# Altium integrated library Microchip Power Management Line Regulator.IntLib: 1174 symbols (part 12 of 31)
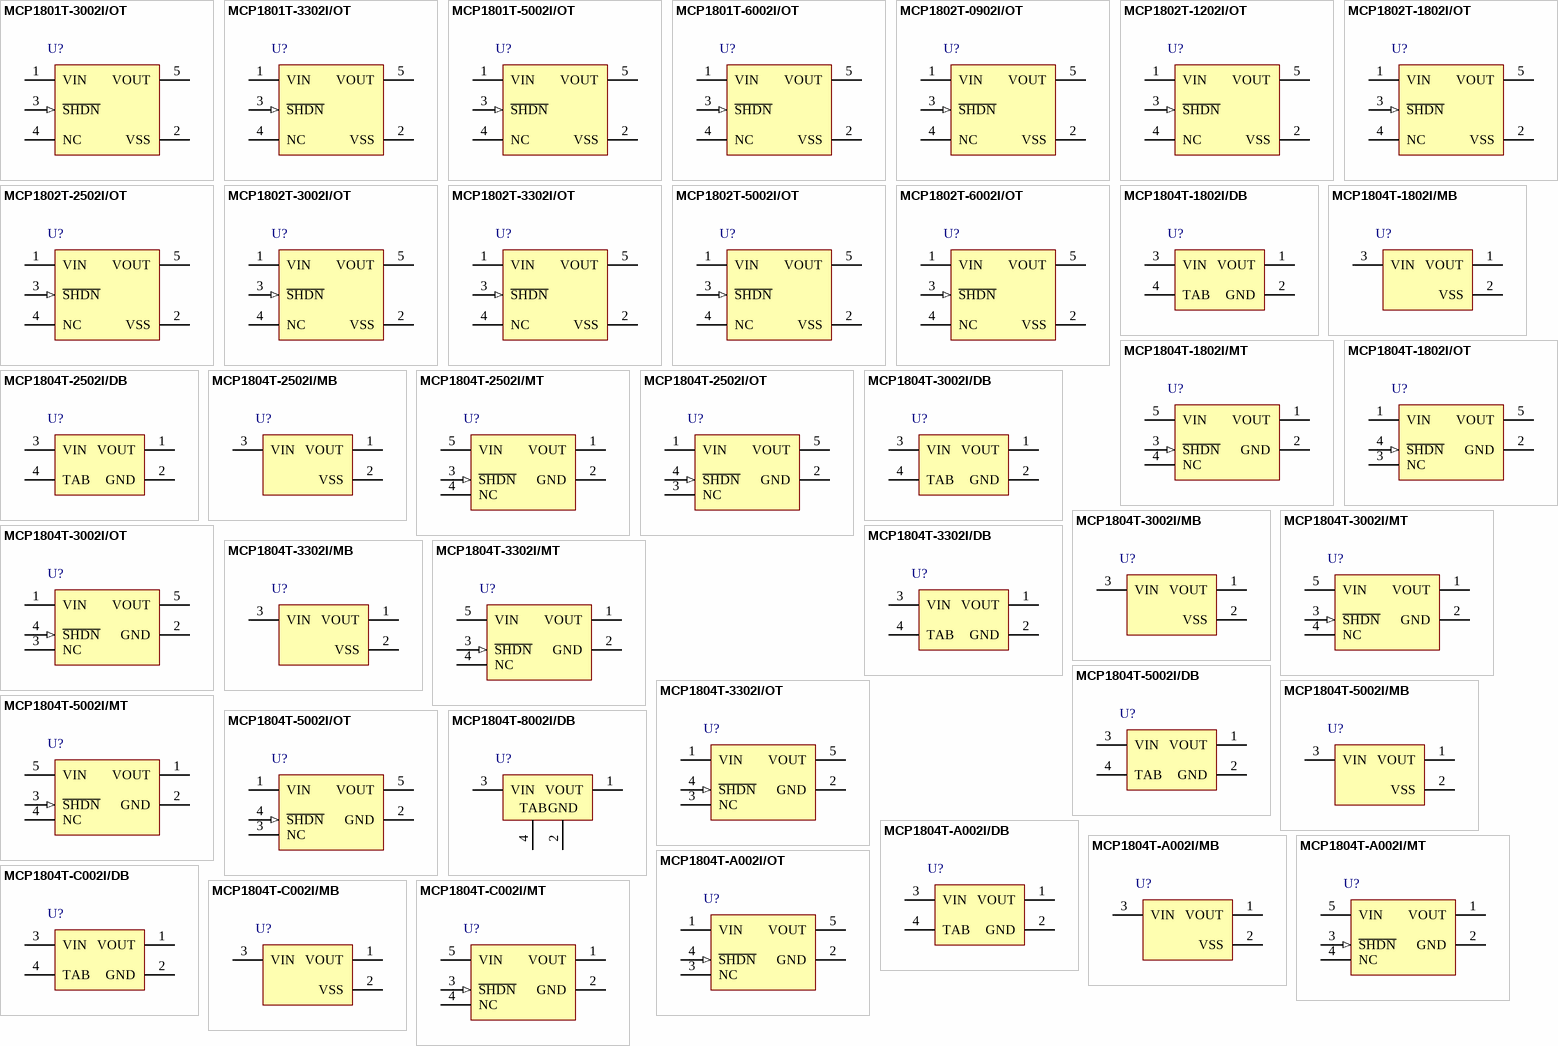
[diagram p41: symbols MCP1801T-3002I/OT to MCP1804T-C002I/MT]

## MCP1804T-5002I/DB
designator U?
150 mA, 28V LDO Regulator With Shutdown, 3-Pin SOT-223, Industrial Temperature, Tape and Reel; Manufacturer: Microchip; PartNumber: MCP1804T-5002I/DB; DatasheetVersion: revB, Nov-2009; PackageVersion: revBB, Aug-2009; PackageReference: SOT-223-DB3; PackageDescription: 3-Lead Plastic Small Outline Transistor (DB) [SOT-223]; Supplier 1: Digi-Key; Supplier Part Number 1: MCP1804T-5002I/DBTR-ND; Supplier 2: Digi-Key; Supplier Part Number 2: MCP1804T-5002I/DBCT-ND; Supplier 3: Digi-Key; Supplier Part Number 3: MCP1804T-5002I/DBDKR-ND; Supplier 4: Newark; Supplier Part Number 4: 52R9939; Supplier 5: Mouser; Supplier Part Number 5: 579-MCP1804T-5002IDB; Mounting Technology: Surface Mount; ComponentLink1Description: Manufacturer URL; ComponentLink1URL: http://www.microchip.com/; ComponentLink2Description: Datasheet; ComponentLink2URL: http://ww1.microchip.com/downloads/en/DeviceDoc/22200b.pdf; ComponentLink3Description: Package Specification; ComponentLink3URL: http://www.microchip.com/stellent/groups/techpub_sg/documents/packagingspec/en012702.pdf
footprint SOT-223-DB3_N (SOT223, 4-Leads, Body 6.5x3.5mm, Pitch 2.3mm, Lead Span 7mm, IPC Medium Density)
footprint SOT-223-DB3_L (SOT223, 4-Leads, Body 6.5x3.5mm, Pitch 2.3mm, Lead Span 7mm, IPC High Density)
footprint SOT-223-DB3_M (SOT223, 4-Leads, Body 6.5x3.5mm, Pitch 2.3mm, Lead Span 7mm, IPC Low Density)
pins: 1 VOUT (power), 2 GND (power), 3 VIN (power), 4 TAB (power)

## MCP1804T-5002I/MB
designator U?
150 mA, 28V LDO Regulator With Shutdown, 3-Pin SOT-89, Industrial Temperature, Tape and Reel; Manufacturer: Microchip; PartNumber: MCP1804T-5002I/MB; DatasheetVersion: revB, Nov-2009; PackageVersion: revBB, Aug-2009; PackageReference: SOT-89-MB3; PackageDescription: 3-Lead Plastic Small Outline Transistor Header (MB) [SOT-89]; Supplier 1: Digi-Key; Supplier Part Number 1: MCP1804T-5002I/MBTR-ND; Supplier 2: Digi-Key; Supplier Part Number 2: MCP1804T-5002I/MBCT-ND; Supplier 3: Digi-Key; Supplier Part Number 3: MCP1804T-5002I/MBDKR-ND; Supplier 4: Newark; Supplier Part Number 4: 52R9940; Supplier 5: Mouser; Supplier Part Number 5: 579-MCP1804T-5002IMB; Mounting Technology: Surface Mount; Code_IPC: SOT89; ComponentLink1Description: Manufacturer URL; ComponentLink1URL: http://www.microchip.com/; ComponentLink2Description: Datasheet; ComponentLink2URL: http://ww1.microchip.com/downloads/en/DeviceDoc/22200b.pdf; ComponentLink3Description: Package Specification; ComponentLink3URL: http://www.microchip.com/stellent/groups/techpub_sg/documents/packagingspec/en012702.pdf
footprint SOT-89-MB3_N (SOT89, 3-Leads, Body 4.5x2.4 mm, Pitch 1.5mm, Lead Span 4.1mm, IPC Medium Density)
footprint SOT-89-MB3_L (SOT89, 3-Leads, Body 4.5x2.4 mm, Pitch 1.5mm, Lead Span 4.1mm, IPC High Density)
footprint SOT-89-MB3_M (SOT89, 3-Leads, Body 4.5x2.4 mm, Pitch 1.5mm, Lead Span 4.1mm, IPC Low Density)
pins: 1 VOUT (power), 2 VSS (power), 3 VIN (power)

## MCP1804T-5002I/MT
designator U?
150 mA, 28V LDO Regulator With Shutdown, 5-Pin SOT-89, Industrial Temperature, Tape and Reel; Manufacturer: Microchip; PartNumber: MCP1804T-5002I/MT; DatasheetVersion: revB, Nov-2009; PackageVersion: revBB, Aug-2009; PackageReference: SOT-89-MT5; PackageDescription: 5-Lead Plastic Small Outline Transistor Header (MT) [SOT-89]; Supplier 1: Digi-Key; Supplier Part Number 1: MCP1804T-5002I/MTTR-ND; Supplier 2: Digi-Key; Supplier Part Number 2: MCP1804T-5002I/MTCT-ND; Supplier 3: Digi-Key; Supplier Part Number 3: MCP1804T-5002I/MTDKR-ND; Supplier 4: Newark; Supplier Part Number 4: 52R9941; Supplier 5: Mouser; Supplier Part Number 5: 579-MCP1804T-5002IMT; Mounting Technology: Surface Mount; ComponentLink1Description: Manufacturer URL; ComponentLink1URL: http://www.microchip.com/; ComponentLink2Description: Datasheet; ComponentLink2URL: http://ww1.microchip.com/downloads/en/DeviceDoc/22200b.pdf; ComponentLink3Description: Package Specification; ComponentLink3URL: http://www.microchip.com/stellent/groups/techpub_sg/documents/packagingspec/en012702.pdf
footprint SOT-89-MT5_N (SOT89, 5-Leads, Body 4.5x2.4 mm, Pitch 1.5mm, Lead Span 4.2mm, IPC Medium Density)
footprint SOT-89-MT5_L (SOT89, 5-Leads, Body 4.5x2.4 mm, Pitch 1.5mm, Lead Span 4.2mm, IPC High Density)
footprint SOT-89-MT5_M (SOT89, 5-Leads, Body 4.5x2.4 mm, Pitch 1.5mm, Lead Span 4.2mm, IPC Low Density)
pins: 1 VOUT (power), 2 GND (power), 3 ~{SHDN} (in), 4 NC, 5 VIN (power)

## MCP1804T-5002I/OT
designator U?
150 mA, 28V LDO Regulator With Shutdown, 5-Pin SOT-23, Industrial Temperature, Tape and Reel; Manufacturer: Microchip; PartNumber: MCP1804T-5002I/OT; DatasheetVersion: revB, Nov-2009; PackageVersion: revBB, Aug-2009; PackageReference: SOT-23-OT5; PackageDescription: 5-Lead Plastic Small Outline Transistor (OT) [SOT-23]; Supplier 1: Digi-Key; Supplier Part Number 1: MCP1804T-5002I/OTTR-ND; Supplier 2: Digi-Key; Supplier Part Number 2: MCP1804T-5002I/OTCT-ND; Supplier 3: Digi-Key; Supplier Part Number 3: MCP1804T-5002I/OTDKR-ND; Supplier 4: Farnell; Supplier Part Number 4: 1825007; Supplier 5: Newark; Supplier Part Number 5: 52R9942; Supplier 6: Mouser; Supplier Part Number 6: 579-MCP1804T-5002IOT; Mounting Technology: Surface Mount; Code_IPC: SOT23-5; ComponentLink1Description: Manufacturer URL; ComponentLink1URL: http://www.microchip.com/; ComponentLink2Description: Datasheet; ComponentLink2URL: http://ww1.microchip.com/downloads/en/DeviceDoc/22200b.pdf; ComponentLink3Description: Package Specification; ComponentLink3URL: http://www.microchip.com/stellent/groups/techpub_sg/documents/packagingspec/en012702.pdf
footprint SOT-23-OT5_N (SOT23, 5-Leads, Body 2.9x1.6mm, Pitch 0.95mm, Lead Span 2.7mm, IPC Medium Density)
footprint SOT-23-OT5_L (SOT23, 5-Leads, Body 2.9x1.6mm, Pitch 0.95mm, Lead Span 2.7mm, IPC High Density)
footprint SOT-23-OT5_M (SOT23, 5-Leads, Body 2.9x1.6mm, Pitch 0.95mm, Lead Span 2.7mm, IPC Low Density)
pins: 1 VIN (power), 2 GND (power), 3 NC, 4 ~{SHDN} (in), 5 VOUT (power)

## MCP1804T-8002I/DB
designator U?
150 mA, 28 V LDO Regulator with Shutdown, -40 to 85 degC, 3-pin SOT-223 (DB3), Tape and Reel; Manufacturer: Microchip; PartNumber: MCP1804T-8002I/DB; DatasheetVersion: Rev. C; PackageVersion: C04-032B; PackageReference: SOT-223-DB3; PackageDescription: 3-Lead Plastic Small Outline Transistor, 6.5 x 3.5 mm Body, 2.3 mm Pitch; Mounting Technology: Surface Mount; ComponentLink1Description: Manufacturer URL; ComponentLink1URL: http://www.microchip.com; ComponentLink2Description: Datasheet; ComponentLink2URL: http://ww1.microchip.com/downloads/en/DeviceDoc/22200C.pdf; ComponentLink3Description: Package Specification; ComponentLink3URL: http://www.microchip.com/stellent/groups/techpub_sg/documents/packagingspec/en012702.pdf; ComponentLink4Description: Product URL; ComponentLink4URL: http://www.microchip.com/MCP1804
footprint MCHP-SOT-223-DB3_N (SOT223, 3-Leads, Body 6.5x3.5mm, Pitch 2.3mm, IPC Medium Density)
footprint MCHP-SOT-223-DB3_L (SOT223, 3-Leads, Body 6.5x3.5mm, Pitch 2.3mm, IPC High Density)
footprint MCHP-SOT-223-DB3_M (SOT223, 3-Leads, Body 6.5x3.5mm, Pitch 2.3mm, IPC Low Density)
pins: 1 VOUT (power) "Regulated Voltage Output", 2 GND (power) "Ground Terminal", 3 VIN (power) "Unregulated Supply Voltage", 4 TAB "No connection"

## MCP1804T-A002I/DB
designator U?
150 mA, 28V LDO Regulator With Shutdown, 3-Pin SOT-223, Industrial Temperature, Tape and Reel; Manufacturer: Microchip; PartNumber: MCP1804T-A002I/DB; DatasheetVersion: revB, Nov-2009; PackageVersion: revBB, Aug-2009; PackageReference: SOT-223-DB3; PackageDescription: 3-Lead Plastic Small Outline Transistor (DB) [SOT-223]; Supplier 1: Digi-Key; Supplier Part Number 1: MCP1804T-A002I/DBTR-ND; Supplier 2: Digi-Key; Supplier Part Number 2: MCP1804T-A002I/DBCT-ND; Supplier 3: Digi-Key; Supplier Part Number 3: MCP1804T-A002I/DBDKR-ND; Supplier 4: Newark; Supplier Part Number 4: 52R9915; Supplier 5: Mouser; Supplier Part Number 5: 579-MCP1804T-A002IDB; Mounting Technology: Surface Mount; ComponentLink1Description: Manufacturer URL; ComponentLink1URL: http://www.microchip.com/; ComponentLink2Description: Datasheet; ComponentLink2URL: http://ww1.microchip.com/downloads/en/DeviceDoc/22200b.pdf; ComponentLink3Description: Package Specification; ComponentLink3URL: http://www.microchip.com/stellent/groups/techpub_sg/documents/packagingspec/en012702.pdf
footprint SOT-223-DB3_N (SOT223, 4-Leads, Body 6.5x3.5mm, Pitch 2.3mm, Lead Span 7mm, IPC Medium Density)
footprint SOT-223-DB3_L (SOT223, 4-Leads, Body 6.5x3.5mm, Pitch 2.3mm, Lead Span 7mm, IPC High Density)
footprint SOT-223-DB3_M (SOT223, 4-Leads, Body 6.5x3.5mm, Pitch 2.3mm, Lead Span 7mm, IPC Low Density)
pins: 1 VOUT (power), 2 GND (power), 3 VIN (power), 4 TAB (power)

## MCP1804T-A002I/MB
designator U?
150 mA, 28V LDO Regulator With Shutdown, 3-Pin SOT-89, Industrial Temperature, Tape and Reel; Manufacturer: Microchip; PartNumber: MCP1804T-A002I/MB; DatasheetVersion: revB, Nov-2009; PackageVersion: revBB, Aug-2009; PackageReference: SOT-89-MB3; PackageDescription: 3-Lead Plastic Small Outline Transistor Header (MB) [SOT-89]; Supplier 1: Digi-Key; Supplier Part Number 1: MCP1804T-A002I/MBTR-ND; Supplier 2: Digi-Key; Supplier Part Number 2: MCP1804T-A002I/MBCT-ND; Supplier 3: Digi-Key; Supplier Part Number 3: MCP1804T-A002I/MBDKR-ND; Supplier 4: Newark; Supplier Part Number 4: 52R9916; Supplier 5: Mouser; Supplier Part Number 5: 579-MCP1804T-A002IMB; Mounting Technology: Surface Mount; Code_IPC: SOT89; ComponentLink1Description: Manufacturer URL; ComponentLink1URL: http://www.microchip.com/; ComponentLink2Description: Datasheet; ComponentLink2URL: http://ww1.microchip.com/downloads/en/DeviceDoc/22200b.pdf; ComponentLink3Description: Package Specification; ComponentLink3URL: http://www.microchip.com/stellent/groups/techpub_sg/documents/packagingspec/en012702.pdf
footprint SOT-89-MB3_N (SOT89, 3-Leads, Body 4.5x2.4 mm, Pitch 1.5mm, Lead Span 4.1mm, IPC Medium Density)
footprint SOT-89-MB3_L (SOT89, 3-Leads, Body 4.5x2.4 mm, Pitch 1.5mm, Lead Span 4.1mm, IPC High Density)
footprint SOT-89-MB3_M (SOT89, 3-Leads, Body 4.5x2.4 mm, Pitch 1.5mm, Lead Span 4.1mm, IPC Low Density)
pins: 1 VOUT (power), 2 VSS (power), 3 VIN (power)

## MCP1804T-A002I/MT
designator U?
150 mA, 28V LDO Regulator With Shutdown, 5-Pin SOT-89, Industrial Temperature, Tape and Reel; Manufacturer: Microchip; PartNumber: MCP1804T-A002I/MT; DatasheetVersion: revB, Nov-2009; PackageVersion: revBB, Aug-2009; PackageReference: SOT-89-MT5; PackageDescription: 5-Lead Plastic Small Outline Transistor Header (MT) [SOT-89]; Supplier 1: Digi-Key; Supplier Part Number 1: MCP1804T-A002I/MTTR-ND; Supplier 2: Digi-Key; Supplier Part Number 2: MCP1804T-A002I/MTCT-ND; Supplier 3: Digi-Key; Supplier Part Number 3: MCP1804T-A002I/MTDKR-ND; Supplier 4: Mouser; Supplier Part Number 4: 579-MCP1804T-A002IMT; Mounting Technology: Surface Mount; ComponentLink1Description: Manufacturer URL; ComponentLink1URL: http://www.microchip.com/; ComponentLink2Description: Datasheet; ComponentLink2URL: http://ww1.microchip.com/downloads/en/DeviceDoc/22200b.pdf; ComponentLink3Description: Package Specification; ComponentLink3URL: http://www.microchip.com/stellent/groups/techpub_sg/documents/packagingspec/en012702.pdf
footprint SOT-89-MT5_N (SOT89, 5-Leads, Body 4.5x2.4 mm, Pitch 1.5mm, Lead Span 4.2mm, IPC Medium Density)
footprint SOT-89-MT5_L (SOT89, 5-Leads, Body 4.5x2.4 mm, Pitch 1.5mm, Lead Span 4.2mm, IPC High Density)
footprint SOT-89-MT5_M (SOT89, 5-Leads, Body 4.5x2.4 mm, Pitch 1.5mm, Lead Span 4.2mm, IPC Low Density)
pins: 1 VOUT (power), 2 GND (power), 3 ~{SHDN} (in), 4 NC, 5 VIN (power)

## MCP1804T-A002I/OT
designator U?
150 mA, 28V LDO Regulator With Shutdown, 5-Pin SOT-23, Industrial Temperature, Tape and Reel; Manufacturer: Microchip; PartNumber: MCP1804T-A002I/OT; Manufacturer Part Number: MIC5270YM5TR; Output Voltage: -14V; Min Input Voltage: -16V; Max Input Voltage: -3.3V; Dropout Voltage: 500mV; Output Current: 100mA; Number of Outputs: 1; Polarity: Negative; Min Output Voltage: -1.24V; Output Voltage Accuracy: 2%; Output Type: Adjustable; DatasheetVersion: revB, Nov-2009; PackageVersion: revBB, Aug-2009; PackageReference: SOT-23-OT5; PackageDescription: 5-Lead Plastic Small Outline Transistor (OT) [SOT-23]; Supplier 1: Digi-Key; Supplier Part Number 1: MCP1804T-A002I/OTTR-ND; Supplier 2: Digi-Key; Supplier Part Number 2: MCP1804T-A002I/OTCT-ND; Supplier 3: Digi-Key; Supplier Part Number 3: MCP1804T-A002I/OTDKR-ND; Supplier 4: Farnell; Supplier Part Number 4: 1825009; Supplier 5: Newark; Supplier Part Number 5: 55R1042; Supplier 6: Mouser; Supplier Part Number 6: 579-MCP1804T-A002IOT; Mounting Technology: Surface Mount; Code_IPC: SOT23-5; ComponentLink1Description: Manufacturer URL; ComponentLink1URL: http://www.microchip.com/; ComponentLink2Description: Datasheet; ComponentLink2URL: http://ww1.microchip.com/downloads/en/DeviceDoc/22200b.pdf; ComponentLink3Description: Package Specification; ComponentLink3URL: http://www.microchip.com/stellent/groups/techpub_sg/documents/packagingspec/en012702.pdf; Mount: Surface Mount; Case/Package: SOT-23; Number of Pins: 5; Min Operating Temperature: -40°C; Max Operating Temperature: 125°C; Packaging: Tape and Reel; Max Output Current: 100mA; Number of Regulators: 1; Max Output Voltage: -14V; Accuracy: 2%; Length: 2.9mm; Height: 1.1mm; Width: 1.6mm; Radiation Hardening: No; REACH SVHC: No SVHC; Lead Free: Lead Free; ComponentLink4URL: http://www.microchip.com/mymicrochip/filehandler.aspx?ddocname=en579863; ComponentLink4Description: http://www.microchip.com/mymicrochip/filehandler.aspx?ddocname=en579863; ComponentLink5URL: https://www.verical.com/server-webapp/html/getDatasheet?partID=227370; ComponentLink5Description: https://www.verical.com/server-webapp/html/getDatasheet?partID=227370; ComponentLink6URL: http://www.farnell.com/datasheets/29611.pdf; ComponentLink6Description: http://www.farnell.com/datasheets/29611.pdf; ComponentLink7URL: http://www.micrel.com/_PDF/mic5270.pdf; ComponentLink7Description: http://www.micrel.com/_PDF/mic5270.pdf
footprint SOT-23-OT5_N (SOT23, 5-Leads, Body 2.9x1.6mm, Pitch 0.95mm, Lead Span 2.7mm, IPC Medium Density)
footprint SOT-23-OT5_L (SOT23, 5-Leads, Body 2.9x1.6mm, Pitch 0.95mm, Lead Span 2.7mm, IPC High Density)
footprint SOT-23-OT5_M (SOT23, 5-Leads, Body 2.9x1.6mm, Pitch 0.95mm, Lead Span 2.7mm, IPC Low Density)
pins: 1 VIN (power), 2 GND (power), 3 NC, 4 ~{SHDN} (in), 5 VOUT (power)

## MCP1804T-C002I/DB
designator U?
150 mA, 28V LDO Regulator With Shutdown, 3-Pin SOT-223, Industrial Temperature, Tape and Reel; Manufacturer: Microchip; PartNumber: MCP1804T-C002I/DB; DatasheetVersion: revB, Nov-2009; PackageVersion: revBB, Aug-2009; PackageReference: SOT-223-DB3; PackageDescription: 3-Lead Plastic Small Outline Transistor (DB) [SOT-223]; Supplier 1: Digi-Key; Supplier Part Number 1: MCP1804T-C002I/DBTR-ND; Supplier 2: Digi-Key; Supplier Part Number 2: MCP1804T-C002I/DBCT-ND; Supplier 3: Digi-Key; Supplier Part Number 3: MCP1804T-C002I/DBDKR-ND; Supplier 4: Newark; Supplier Part Number 4: 52R9919; Supplier 5: Mouser; Supplier Part Number 5: 579-MCP1804T-C002IDB; Mounting Technology: Surface Mount; ComponentLink1Description: Manufacturer URL; ComponentLink1URL: http://www.microchip.com/; ComponentLink2Description: Datasheet; ComponentLink2URL: http://ww1.microchip.com/downloads/en/DeviceDoc/22200b.pdf; ComponentLink3Description: Package Specification; ComponentLink3URL: http://www.microchip.com/stellent/groups/techpub_sg/documents/packagingspec/en012702.pdf
footprint SOT-223-DB3_N (SOT223, 4-Leads, Body 6.5x3.5mm, Pitch 2.3mm, Lead Span 7mm, IPC Medium Density)
footprint SOT-223-DB3_L (SOT223, 4-Leads, Body 6.5x3.5mm, Pitch 2.3mm, Lead Span 7mm, IPC High Density)
footprint SOT-223-DB3_M (SOT223, 4-Leads, Body 6.5x3.5mm, Pitch 2.3mm, Lead Span 7mm, IPC Low Density)
pins: 1 VOUT (power), 2 GND (power), 3 VIN (power), 4 TAB (power)

## MCP1804T-C002I/MB
designator U?
150 mA, 28V LDO Regulator With Shutdown, 3-Pin SOT-89, Industrial Temperature, Tape and Reel; Manufacturer: Microchip; PartNumber: MCP1804T-C002I/MB; DatasheetVersion: revB, Nov-2009; PackageVersion: revBB, Aug-2009; PackageReference: SOT-89-MB3; PackageDescription: 3-Lead Plastic Small Outline Transistor Header (MB) [SOT-89]; Supplier 1: Digi-Key; Supplier Part Number 1: MCP1804T-C002I/MBTR-ND; Supplier 2: Digi-Key; Supplier Part Number 2: MCP1804T-C002I/MBCT-ND; Supplier 3: Digi-Key; Supplier Part Number 3: MCP1804T-C002I/MBDKR-ND; Supplier 4: Mouser; Supplier Part Number 4: 579-MCP1804T-C002IMB; Mounting Technology: Surface Mount; Code_IPC: SOT89; ComponentLink1Description: Manufacturer URL; ComponentLink1URL: http://www.microchip.com/; ComponentLink2Description: Datasheet; ComponentLink2URL: http://ww1.microchip.com/downloads/en/DeviceDoc/22200b.pdf; ComponentLink3Description: Package Specification; ComponentLink3URL: http://www.microchip.com/stellent/groups/techpub_sg/documents/packagingspec/en012702.pdf
footprint SOT-89-MB3_N (SOT89, 3-Leads, Body 4.5x2.4 mm, Pitch 1.5mm, Lead Span 4.1mm, IPC Medium Density)
footprint SOT-89-MB3_L (SOT89, 3-Leads, Body 4.5x2.4 mm, Pitch 1.5mm, Lead Span 4.1mm, IPC High Density)
footprint SOT-89-MB3_M (SOT89, 3-Leads, Body 4.5x2.4 mm, Pitch 1.5mm, Lead Span 4.1mm, IPC Low Density)
pins: 1 VOUT (power), 2 VSS (power), 3 VIN (power)

## MCP1804T-C002I/MT
designator U?
150 mA, 28V LDO Regulator With Shutdown, 5-Pin SOT-89, Industrial Temperature, Tape and Reel; Manufacturer: Microchip; PartNumber: MCP1804T-C002I/MT; DatasheetVersion: revB, Nov-2009; PackageVersion: revBB, Aug-2009; PackageReference: SOT-89-MT5; PackageDescription: 5-Lead Plastic Small Outline Transistor Header (MT) [SOT-89]; Supplier 1: Digi-Key; Supplier Part Number 1: MCP1804T-C002I/MTTR-ND; Supplier 2: Digi-Key; Supplier Part Number 2: MCP1804T-C002I/MTCT-ND; Supplier 3: Digi-Key; Supplier Part Number 3: MCP1804T-C002I/MTDKR-ND; Supplier 4: Mouser; Supplier Part Number 4: 579-MCP1804T-C002IMT; Mounting Technology: Surface Mount; ComponentLink1Description: Manufacturer URL; ComponentLink1URL: http://www.microchip.com/; ComponentLink2Description: Datasheet; ComponentLink2URL: http://ww1.microchip.com/downloads/en/DeviceDoc/22200b.pdf; ComponentLink3Description: Package Specification; ComponentLink3URL: http://www.microchip.com/stellent/groups/techpub_sg/documents/packagingspec/en012702.pdf
footprint SOT-89-MT5_N (SOT89, 5-Leads, Body 4.5x2.4 mm, Pitch 1.5mm, Lead Span 4.2mm, IPC Medium Density)
footprint SOT-89-MT5_L (SOT89, 5-Leads, Body 4.5x2.4 mm, Pitch 1.5mm, Lead Span 4.2mm, IPC High Density)
footprint SOT-89-MT5_M (SOT89, 5-Leads, Body 4.5x2.4 mm, Pitch 1.5mm, Lead Span 4.2mm, IPC Low Density)
pins: 1 VOUT (power), 2 GND (power), 3 ~{SHDN} (in), 4 NC, 5 VIN (power)

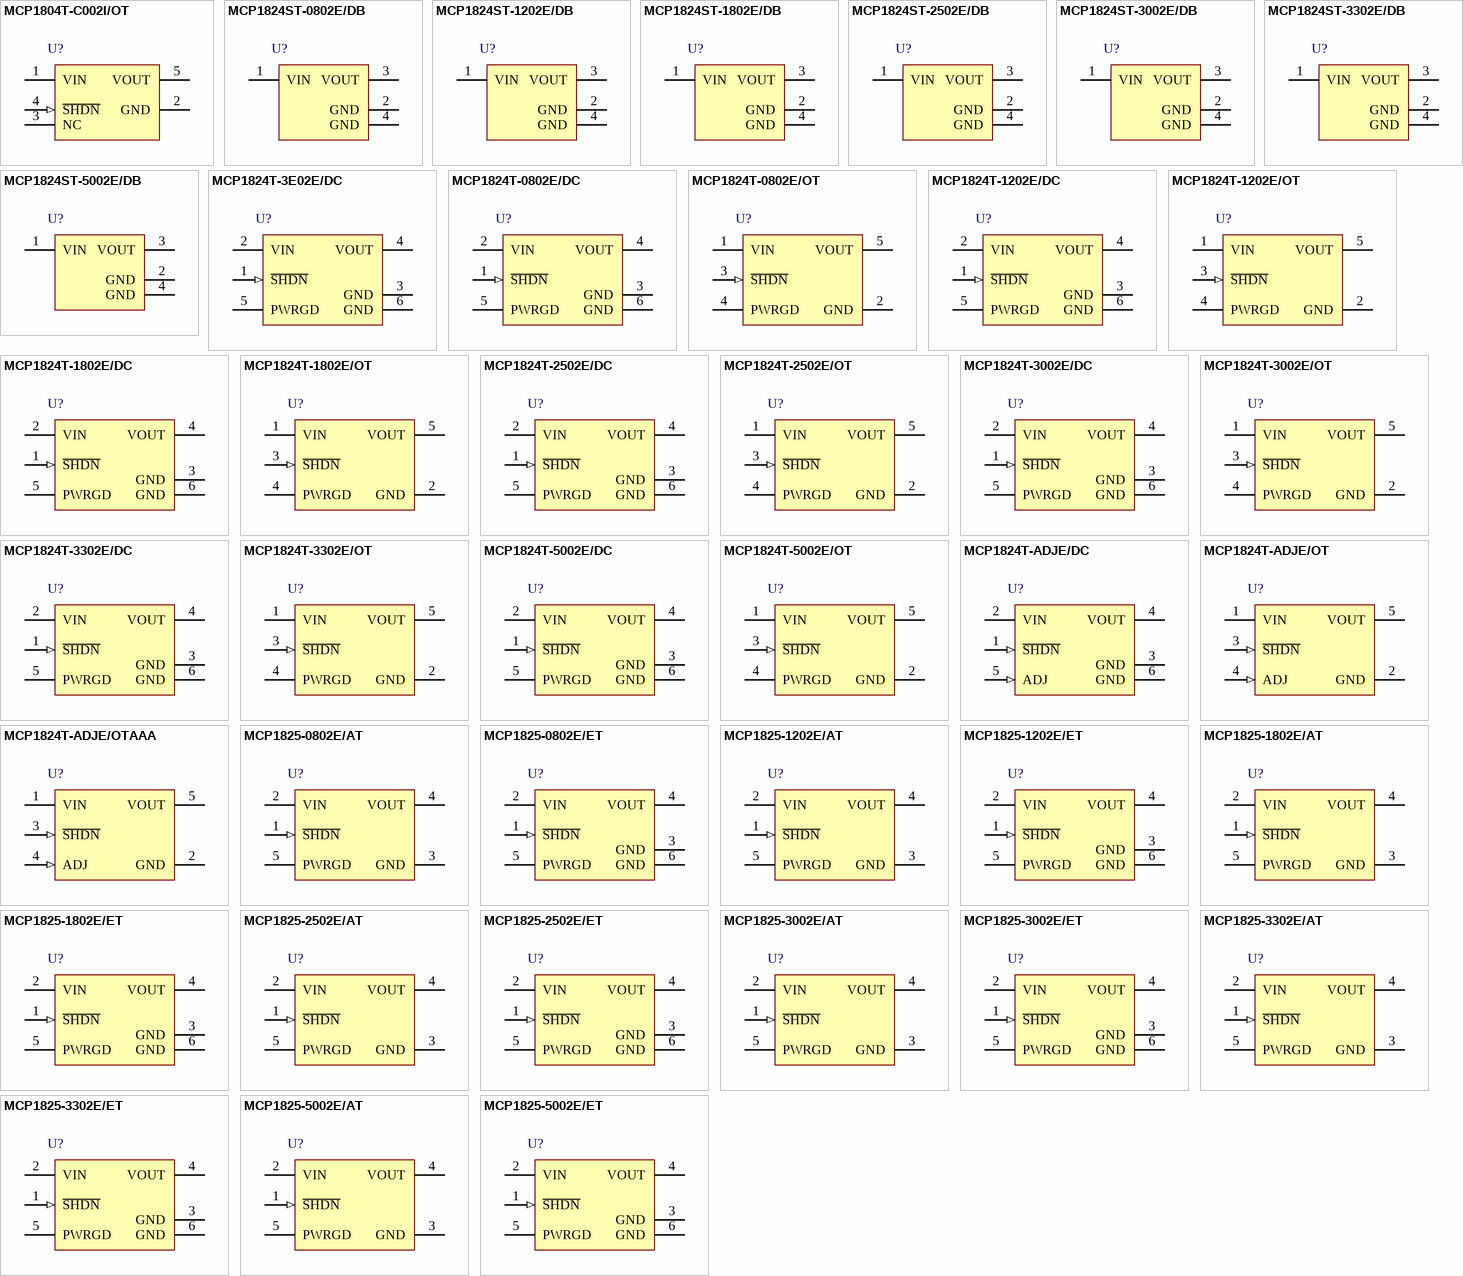
[diagram p11: symbols MCP1804T-C002I/OT to MCP1825-5002E/ET]

## MCP1804T-C002I/OT
designator U?
150 mA, 28V LDO Regulator With Shutdown, 5-Pin SOT-23, Industrial Temperature, Tape and Reel; Manufacturer: Microchip; PartNumber: MCP1804T-C002I/OT; DatasheetVersion: revB, Nov-2009; PackageVersion: revBB, Aug-2009; PackageReference: SOT-23-OT5; PackageDescription: 5-Lead Plastic Small Outline Transistor (OT) [SOT-23]; Supplier 1: Digi-Key; Supplier Part Number 1: MCP1804T-C002I/OTTR-ND; Supplier 2: Digi-Key; Supplier Part Number 2: MCP1804T-C002I/OTCT-ND; Supplier 3: Digi-Key; Supplier Part Number 3: MCP1804T-C002I/OTDKR-ND; Supplier 4: Farnell; Supplier Part Number 4: 1825011; Supplier 5: Newark; Supplier Part Number 5: 55R1043; Supplier 6: Mouser; Supplier Part Number 6: 579-MCP1804T-C002IOT; Mounting Technology: Surface Mount; Code_IPC: SOT23-5; ComponentLink1Description: Manufacturer URL; ComponentLink1URL: http://www.microchip.com/; ComponentLink2Description: Datasheet; ComponentLink2URL: http://ww1.microchip.com/downloads/en/DeviceDoc/22200b.pdf; ComponentLink3Description: Package Specification; ComponentLink3URL: http://www.microchip.com/stellent/groups/techpub_sg/documents/packagingspec/en012702.pdf
footprint SOT-23-OT5_N (SOT23, 5-Leads, Body 2.9x1.6mm, Pitch 0.95mm, Lead Span 2.7mm, IPC Medium Density)
footprint SOT-23-OT5_L (SOT23, 5-Leads, Body 2.9x1.6mm, Pitch 0.95mm, Lead Span 2.7mm, IPC High Density)
footprint SOT-23-OT5_M (SOT23, 5-Leads, Body 2.9x1.6mm, Pitch 0.95mm, Lead Span 2.7mm, IPC Low Density)
pins: 1 VIN (power), 2 GND (power), 3 NC, 4 ~{SHDN} (in), 5 VOUT (power)

## MCP1824ST-0802E/DB
designator U?
300 mA, Low Voltage, Low Quiescent Current LDO Regulator, 3-Pin SOT-223, Extended Temperature, Tape and Reel; Manufacturer: Microchip; PartNumber: MCP1824ST-0802E/DB; DatasheetVersion: revA, Aug-2007; PackageVersion: revBB, Aug-2009; PackageReference: SOT-223-DB3; PackageDescription: 3-Lead Plastic Small Outline Transistor (DB) [SOT-223]; Supplier 1: Digi-Key; Supplier Part Number 1: MCP1824ST-0802E/DBTR-ND; Supplier 2: Digi-Key; Supplier Part Number 2: MCP1824ST-0802E/DBCT-ND; Supplier 3: Digi-Key; Supplier Part Number 3: MCP1824ST-0802E/DBDKR-ND; Supplier 4: Farnell; Supplier Part Number 4: 1578374; Supplier 5: Farnell; Supplier Part Number 5: 1578374RL; Supplier 6: Mouser; Supplier Part Number 6: 579-MCP1824ST0802EDB; Mounting Technology: Surface Mount; ComponentLink1Description: Manufacturer URL; ComponentLink1URL: http://www.microchip.com/; ComponentLink2Description: Datasheet; ComponentLink2URL: http://ww1.microchip.com/downloads/en/DeviceDoc/22070a.pdf; ComponentLink3Description: Package Specification; ComponentLink3URL: http://www.microchip.com/stellent/groups/techpub_sg/documents/packagingspec/en012702.pdf
footprint SOT-223-DB3_N (SOT223, 4-Leads, Body 6.5x3.5mm, Pitch 2.3mm, Lead Span 7mm, IPC Medium Density)
footprint SOT-223-DB3_L (SOT223, 4-Leads, Body 6.5x3.5mm, Pitch 2.3mm, Lead Span 7mm, IPC High Density)
footprint SOT-223-DB3_M (SOT223, 4-Leads, Body 6.5x3.5mm, Pitch 2.3mm, Lead Span 7mm, IPC Low Density)
pins: 1 VIN (power), 2 GND (power), 3 VOUT (power), 4 GND (power)

## MCP1824ST-1202E/DB
designator U?
300 mA, Low Voltage, Low Quiescent Current LDO Regulator, 3-Pin SOT-223, Extended Temperature, Tape and Reel; Manufacturer: Microchip; PartNumber: MCP1824ST-1202E/DB; DatasheetVersion: revA, Aug-2007; PackageVersion: revBB, Aug-2009; PackageReference: SOT-223-DB3; PackageDescription: 3-Lead Plastic Small Outline Transistor (DB) [SOT-223]; Supplier 1: Digi-Key; Supplier Part Number 1: MCP1824ST-1202E/DBTR-ND; Supplier 2: Digi-Key; Supplier Part Number 2: MCP1824ST-1202E/DBCT-ND; Supplier 3: Digi-Key; Supplier Part Number 3: MCP1824ST-1202E/DBDKR-ND; Supplier 4: Farnell; Supplier Part Number 4: 1675417; Supplier 5: Farnell; Supplier Part Number 5: 1675417RL; Supplier 6: Newark; Supplier Part Number 6: 08N7663; Supplier 7: Mouser; Supplier Part Number 7: 579-MCP1824ST1202EDB; Mounting Technology: Surface Mount; ComponentLink1Description: Manufacturer URL; ComponentLink1URL: http://www.microchip.com/; ComponentLink2Description: Datasheet; ComponentLink2URL: http://ww1.microchip.com/downloads/en/DeviceDoc/22070a.pdf; ComponentLink3Description: Package Specification; ComponentLink3URL: http://www.microchip.com/stellent/groups/techpub_sg/documents/packagingspec/en012702.pdf
footprint SOT-223-DB3_N (SOT223, 4-Leads, Body 6.5x3.5mm, Pitch 2.3mm, Lead Span 7mm, IPC Medium Density)
footprint SOT-223-DB3_L (SOT223, 4-Leads, Body 6.5x3.5mm, Pitch 2.3mm, Lead Span 7mm, IPC High Density)
footprint SOT-223-DB3_M (SOT223, 4-Leads, Body 6.5x3.5mm, Pitch 2.3mm, Lead Span 7mm, IPC Low Density)
pins: 1 VIN (power), 2 GND (power), 3 VOUT (power), 4 GND (power)

## MCP1824ST-1802E/DB
designator U?
300 mA, Low Voltage, Low Quiescent Current LDO Regulator, 3-Pin SOT-223, Extended Temperature, Tape and Reel; Manufacturer: Microchip; PartNumber: MCP1824ST-1802E/DB; DatasheetVersion: revA, Aug-2007; PackageVersion: revBB, Aug-2009; PackageReference: SOT-223-DB3; PackageDescription: 3-Lead Plastic Small Outline Transistor (DB) [SOT-223]; Supplier 1: Digi-Key; Supplier Part Number 1: MCP1824ST-1802E/DBTR-ND; Supplier 2: Digi-Key; Supplier Part Number 2: MCP1824ST-1802E/DBCT-ND; Supplier 3: Digi-Key; Supplier Part Number 3: MCP1824ST-1802E/DBDKR-ND; Supplier 4: Farnell; Supplier Part Number 4: 1578375; Supplier 5: Farnell; Supplier Part Number 5: 1578375RL; Supplier 6: Newark; Supplier Part Number 6: 95M9050; Supplier 7: Mouser; Supplier Part Number 7: 579-MCP1824ST1802EDB; Mounting Technology: Surface Mount; ComponentLink1Description: Manufacturer URL; ComponentLink1URL: http://www.microchip.com/; ComponentLink2Description: Datasheet; ComponentLink2URL: http://ww1.microchip.com/downloads/en/DeviceDoc/22070a.pdf; ComponentLink3Description: Package Specification; ComponentLink3URL: http://www.microchip.com/stellent/groups/techpub_sg/documents/packagingspec/en012702.pdf
footprint SOT-223-DB3_N (SOT223, 4-Leads, Body 6.5x3.5mm, Pitch 2.3mm, Lead Span 7mm, IPC Medium Density)
footprint SOT-223-DB3_L (SOT223, 4-Leads, Body 6.5x3.5mm, Pitch 2.3mm, Lead Span 7mm, IPC High Density)
footprint SOT-223-DB3_M (SOT223, 4-Leads, Body 6.5x3.5mm, Pitch 2.3mm, Lead Span 7mm, IPC Low Density)
pins: 1 VIN (power), 2 GND (power), 3 VOUT (power), 4 GND (power)

## MCP1824ST-2502E/DB
designator U?
300 mA, Low Voltage, Low Quiescent Current LDO Regulator, 3-Pin SOT-223, Extended Temperature, Tape and Reel; Manufacturer: Microchip; PartNumber: MCP1824ST-2502E/DB; DatasheetVersion: revA, Aug-2007; PackageVersion: revBB, Aug-2009; PackageReference: SOT-223-DB3; PackageDescription: 3-Lead Plastic Small Outline Transistor (DB) [SOT-223]; Supplier 1: Digi-Key; Supplier Part Number 1: MCP1824ST-2502E/DBTR-ND; Supplier 2: Digi-Key; Supplier Part Number 2: MCP1824ST-2502E/DBCT-ND; Supplier 3: Digi-Key; Supplier Part Number 3: MCP1824ST-2502E/DBDKR-ND; Supplier 4: Farnell; Supplier Part Number 4: 1578377RL; Supplier 5: Farnell; Supplier Part Number 5: 1578377; Supplier 6: Mouser; Supplier Part Number 6: 579-MCP1824ST2502EDB; Mounting Technology: Surface Mount; ComponentLink1Description: Manufacturer URL; ComponentLink1URL: http://www.microchip.com/; ComponentLink2Description: Datasheet; ComponentLink2URL: http://ww1.microchip.com/downloads/en/DeviceDoc/22070a.pdf; ComponentLink3Description: Package Specification; ComponentLink3URL: http://www.microchip.com/stellent/groups/techpub_sg/documents/packagingspec/en012702.pdf
footprint SOT-223-DB3_N (SOT223, 4-Leads, Body 6.5x3.5mm, Pitch 2.3mm, Lead Span 7mm, IPC Medium Density)
footprint SOT-223-DB3_L (SOT223, 4-Leads, Body 6.5x3.5mm, Pitch 2.3mm, Lead Span 7mm, IPC High Density)
footprint SOT-223-DB3_M (SOT223, 4-Leads, Body 6.5x3.5mm, Pitch 2.3mm, Lead Span 7mm, IPC Low Density)
pins: 1 VIN (power), 2 GND (power), 3 VOUT (power), 4 GND (power)

## MCP1824ST-3002E/DB
designator U?
300 mA, Low Voltage, Low Quiescent Current LDO Regulator, 3-Pin SOT-223, Extended Temperature, Tape and Reel; Manufacturer: Microchip; PartNumber: MCP1824ST-3002E/DB; DatasheetVersion: revA, Aug-2007; PackageVersion: revBB, Aug-2009; PackageReference: SOT-223-DB3; PackageDescription: 3-Lead Plastic Small Outline Transistor (DB) [SOT-223]; Supplier 1: Digi-Key; Supplier Part Number 1: MCP1824ST-3002E/DBTR-ND; Supplier 2: Digi-Key; Supplier Part Number 2: MCP1824ST-3002E/DBCT-ND; Supplier 3: Digi-Key; Supplier Part Number 3: MCP1824ST-3002E/DBDKR-ND; Supplier 4: Farnell; Supplier Part Number 4: 1578378; Supplier 5: Farnell; Supplier Part Number 5: 1578378RL; Supplier 6: Newark; Supplier Part Number 6: 88M9946; Supplier 7: Mouser; Supplier Part Number 7: 579-MCP1824ST3002EDB; Mounting Technology: Surface Mount; ComponentLink1Description: Manufacturer URL; ComponentLink1URL: http://www.microchip.com/; ComponentLink2Description: Datasheet; ComponentLink2URL: http://ww1.microchip.com/downloads/en/DeviceDoc/22070a.pdf; ComponentLink3Description: Package Specification; ComponentLink3URL: http://www.microchip.com/stellent/groups/techpub_sg/documents/packagingspec/en012702.pdf
footprint SOT-223-DB3_N (SOT223, 4-Leads, Body 6.5x3.5mm, Pitch 2.3mm, Lead Span 7mm, IPC Medium Density)
footprint SOT-223-DB3_L (SOT223, 4-Leads, Body 6.5x3.5mm, Pitch 2.3mm, Lead Span 7mm, IPC High Density)
footprint SOT-223-DB3_M (SOT223, 4-Leads, Body 6.5x3.5mm, Pitch 2.3mm, Lead Span 7mm, IPC Low Density)
pins: 1 VIN (power), 2 GND (power), 3 VOUT (power), 4 GND (power)

## MCP1824ST-3302E/DB
designator U?
300 mA, Low Voltage, Low Quiescent Current LDO Regulator, 3-Pin SOT-223, Extended Temperature, Tape and Reel; Manufacturer: Microchip; PartNumber: MCP1824ST-3302E/DB; DatasheetVersion: revA, Aug-2007; PackageVersion: revBB, Aug-2009; PackageReference: SOT-223-DB3; PackageDescription: 3-Lead Plastic Small Outline Transistor (DB) [SOT-223]; Supplier 1: Digi-Key; Supplier Part Number 1: MCP1824ST-3302E/DBTR-ND; Supplier 2: Digi-Key; Supplier Part Number 2: MCP1824ST-3302E/DBCT-ND; Supplier 3: Digi-Key; Supplier Part Number 3: MCP1824ST-3302E/DBDKR-ND; Supplier 4: Farnell; Supplier Part Number 4: 1578379; Supplier 5: Farnell; Supplier Part Number 5: 1578379RL; Supplier 6: Newark; Supplier Part Number 6: 05N1293; Supplier 7: Mouser; Supplier Part Number 7: 579-MCP1824ST3302EDB; Mounting Technology: Surface Mount; ComponentLink1Description: Manufacturer URL; ComponentLink1URL: http://www.microchip.com/; ComponentLink2Description: Datasheet; ComponentLink2URL: http://ww1.microchip.com/downloads/en/DeviceDoc/22070a.pdf; ComponentLink3Description: Package Specification; ComponentLink3URL: http://www.microchip.com/stellent/groups/techpub_sg/documents/packagingspec/en012702.pdf
footprint SOT-223-DB3_N (SOT223, 4-Leads, Body 6.5x3.5mm, Pitch 2.3mm, Lead Span 7mm, IPC Medium Density)
footprint SOT-223-DB3_L (SOT223, 4-Leads, Body 6.5x3.5mm, Pitch 2.3mm, Lead Span 7mm, IPC High Density)
footprint SOT-223-DB3_M (SOT223, 4-Leads, Body 6.5x3.5mm, Pitch 2.3mm, Lead Span 7mm, IPC Low Density)
pins: 1 VIN (power), 2 GND (power), 3 VOUT (power), 4 GND (power)

## MCP1824ST-5002E/DB
designator U?
300 mA, Low Voltage, Low Quiescent Current LDO Regulator, 3-Pin SOT-223, Extended Temperature, Tape and Reel; Manufacturer: Microchip; PartNumber: MCP1824ST-5002E/DB; DatasheetVersion: revA, Aug-2007; PackageVersion: revBB, Aug-2009; PackageReference: SOT-223-DB3; PackageDescription: 3-Lead Plastic Small Outline Transistor (DB) [SOT-223]; Supplier 1: Digi-Key; Supplier Part Number 1: MCP1824ST-5002E/DBTR-ND; Supplier 2: Digi-Key; Supplier Part Number 2: MCP1824ST-5002E/DBCT-ND; Supplier 3: Digi-Key; Supplier Part Number 3: MCP1824ST-5002E/DBDKR-ND; Supplier 4: Farnell; Supplier Part Number 4: 1578380; Supplier 5: Farnell; Supplier Part Number 5: 1578380RL; Supplier 6: Mouser; Supplier Part Number 6: 579-MCP1824ST5002EDB; Mounting Technology: Surface Mount; ComponentLink1Description: Manufacturer URL; ComponentLink1URL: http://www.microchip.com/; ComponentLink2Description: Datasheet; ComponentLink2URL: http://ww1.microchip.com/downloads/en/DeviceDoc/22070a.pdf; ComponentLink3Description: Package Specification; ComponentLink3URL: http://www.microchip.com/stellent/groups/techpub_sg/documents/packagingspec/en012702.pdf
footprint SOT-223-DB3_N (SOT223, 4-Leads, Body 6.5x3.5mm, Pitch 2.3mm, Lead Span 7mm, IPC Medium Density)
footprint SOT-223-DB3_L (SOT223, 4-Leads, Body 6.5x3.5mm, Pitch 2.3mm, Lead Span 7mm, IPC High Density)
footprint SOT-223-DB3_M (SOT223, 4-Leads, Body 6.5x3.5mm, Pitch 2.3mm, Lead Span 7mm, IPC Low Density)
pins: 1 VIN (power), 2 GND (power), 3 VOUT (power), 4 GND (power)

## MCP1824T-3E02E/DC
designator U?
300 mA, Low Voltage, Low Quiescent Current LDO Regulator, 5-Pin SOT-223, Extended Temperature, Tape and Reel; Manufacturer: Microchip; PartNumber: MCP1824T-3E02E/DC; DatasheetVersion: revA, Aug-2007; PackageVersion: revBB, Aug-2009; PackageReference: SOT-223-DC5; PackageDescription: 5-Lead Plastic Small Outline Transistor (DC) [SOT-223]; Mounting Technology: Surface Mount; ComponentLink1Description: Manufacturer URL; ComponentLink1URL: http://www.microchip.com/; ComponentLink2Description: Datasheet; ComponentLink2URL: http://ww1.microchip.com/downloads/en/DeviceDoc/22070a.pdf; ComponentLink3Description: Package Specification; ComponentLink3URL: http://www.microchip.com/stellent/groups/techpub_sg/documents/packagingspec/en012702.pdf
footprint SOT-223-DC5_N (SOT223, 6-Leads, Body 6.5x3.5mm, Pitch 1.27mm, Lead Span 7mm, IPC Medium Density)
footprint SOT-223-DC5_L (SOT223, 6-Leads, Body 6.5x3.5mm, Pitch 1.27mm, Lead Span 7mm, IPC High Density)
footprint SOT-223-DC5_M (SOT223, 6-Leads, Body 6.5x3.5mm, Pitch 1.27mm, Lead Span 7mm, IPC Low Density)
pins: 1 ~{SHDN} (in), 2 VIN (power), 3 GND (power), 4 VOUT (power), 5 PWRGD (power), 6 GND (power)

## MCP1824T-0802E/DC
designator U?
300 mA, Low Voltage, Low Quiescent Current LDO Regulator, 5-Pin SOT-223, Extended Temperature, Tape and Reel; Manufacturer: Microchip; PartNumber: MCP1824T-0802E/DC; DatasheetVersion: revA, Aug-2007; PackageVersion: revBB, Aug-2009; PackageReference: SOT-223-DC5; PackageDescription: 5-Lead Plastic Small Outline Transistor (DC) [SOT-223]; Supplier 1: Digi-Key; Supplier Part Number 1: MCP1824T-0802E/DCTR-ND; Supplier 2: Digi-Key; Supplier Part Number 2: MCP1824T-0802E/DCCT-ND; Supplier 3: Digi-Key; Supplier Part Number 3: MCP1824T-0802E/DCDKR-ND; Supplier 4: Mouser; Supplier Part Number 4: 579-MCP1824T-0802EDC; Mounting Technology: Surface Mount; ComponentLink1Description: Manufacturer URL; ComponentLink1URL: http://www.microchip.com/; ComponentLink2Description: Datasheet; ComponentLink2URL: http://ww1.microchip.com/downloads/en/DeviceDoc/22070a.pdf; ComponentLink3Description: Package Specification; ComponentLink3URL: http://www.microchip.com/stellent/groups/techpub_sg/documents/packagingspec/en012702.pdf
footprint SOT-223-DC5_N (SOT223, 6-Leads, Body 6.5x3.5mm, Pitch 1.27mm, Lead Span 7mm, IPC Medium Density)
footprint SOT-223-DC5_L (SOT223, 6-Leads, Body 6.5x3.5mm, Pitch 1.27mm, Lead Span 7mm, IPC High Density)
footprint SOT-223-DC5_M (SOT223, 6-Leads, Body 6.5x3.5mm, Pitch 1.27mm, Lead Span 7mm, IPC Low Density)
pins: 1 ~{SHDN} (in), 2 VIN (power), 3 GND (power), 4 VOUT (power), 5 PWRGD (power), 6 GND (power)

## MCP1824T-0802E/OT
designator U?
300 mA, Low Voltage, Low Quiescent Current LDO Regulator, 5-Pin SOT-23, Extended Temperature, Tape and Reel; Manufacturer: Microchip; PartNumber: MCP1824T-0802E/OT; DatasheetVersion: revA, Aug-2007; PackageVersion: revBB, Aug-2009; PackageReference: SOT-23-OT5; PackageDescription: 5-Lead Plastic Small Outline Transistor (OT) [SOT-23]; Supplier 1: Digi-Key; Supplier Part Number 1: MCP1824T-0802E/OTTR-ND; Supplier 2: Farnell; Supplier Part Number 2: 1675418; Supplier 3: Farnell; Supplier Part Number 3: 1675418RL; Supplier 4: Newark; Supplier Part Number 4: 08N7664; Supplier 5: Mouser; Supplier Part Number 5: 579-MCP1824T-0802EOT; Mounting Technology: Surface Mount; Code_IPC: SOT23-5; ComponentLink1Description: Manufacturer URL; ComponentLink1URL: http://www.microchip.com/; ComponentLink2Description: Datasheet; ComponentLink2URL: http://ww1.microchip.com/downloads/en/DeviceDoc/22070a.pdf; ComponentLink3Description: Package Specification; ComponentLink3URL: http://www.microchip.com/stellent/groups/techpub_sg/documents/packagingspec/en012702.pdf
footprint SOT-23-OT5_N (SOT23, 5-Leads, Body 2.9x1.6mm, Pitch 0.95mm, Lead Span 2.7mm, IPC Medium Density)
footprint SOT-23-OT5_L (SOT23, 5-Leads, Body 2.9x1.6mm, Pitch 0.95mm, Lead Span 2.7mm, IPC High Density)
footprint SOT-23-OT5_M (SOT23, 5-Leads, Body 2.9x1.6mm, Pitch 0.95mm, Lead Span 2.7mm, IPC Low Density)
pins: 1 VIN (power), 2 GND (power), 3 ~{SHDN} (in), 4 PWRGD (power), 5 VOUT (power)

## MCP1824T-1202E/DC
designator U?
300 mA, Low Voltage, Low Quiescent Current LDO Regulator, 5-Pin SOT-223, Extended Temperature, Tape and Reel; Manufacturer: Microchip; PartNumber: MCP1824T-1202E/DC; DatasheetVersion: revA, Aug-2007; PackageVersion: revBB, Aug-2009; PackageReference: SOT-223-DC5; PackageDescription: 5-Lead Plastic Small Outline Transistor (DC) [SOT-223]; Supplier 1: Digi-Key; Supplier Part Number 1: MCP1824T-1202E/DCTR-ND; Supplier 2: Digi-Key; Supplier Part Number 2: MCP1824T-1202E/DCCT-ND; Supplier 3: Digi-Key; Supplier Part Number 3: MCP1824T-1202E/DCDKR-ND; Supplier 4: Farnell; Supplier Part Number 4: 1675419RL; Supplier 5: Newark; Supplier Part Number 5: 08N7665; Supplier 6: Mouser; Supplier Part Number 6: 579-MCP1824T-1202EDC; Mounting Technology: Surface Mount; ComponentLink1Description: Manufacturer URL; ComponentLink1URL: http://www.microchip.com/; ComponentLink2Description: Datasheet; ComponentLink2URL: http://ww1.microchip.com/downloads/en/DeviceDoc/22070a.pdf; ComponentLink3Description: Package Specification; ComponentLink3URL: http://www.microchip.com/stellent/groups/techpub_sg/documents/packagingspec/en012702.pdf
footprint SOT-223-DC5_N (SOT223, 6-Leads, Body 6.5x3.5mm, Pitch 1.27mm, Lead Span 7mm, IPC Medium Density)
footprint SOT-223-DC5_L (SOT223, 6-Leads, Body 6.5x3.5mm, Pitch 1.27mm, Lead Span 7mm, IPC High Density)
footprint SOT-223-DC5_M (SOT223, 6-Leads, Body 6.5x3.5mm, Pitch 1.27mm, Lead Span 7mm, IPC Low Density)
pins: 1 ~{SHDN} (in), 2 VIN (power), 3 GND (power), 4 VOUT (power), 5 PWRGD (power), 6 GND (power)

## MCP1824T-1202E/OT
designator U?
300 mA, Low Voltage, Low Quiescent Current LDO Regulator, 5-Pin SOT-23, Extended Temperature, Tape and Reel; Manufacturer: Microchip; PartNumber: MCP1824T-1202E/OT; DatasheetVersion: revA, Aug-2007; PackageVersion: revBB, Aug-2009; PackageReference: SOT-23-OT5; PackageDescription: 5-Lead Plastic Small Outline Transistor (OT) [SOT-23]; Supplier 1: Digi-Key; Supplier Part Number 1: MCP1824T-1202E/OTTR-ND; Supplier 2: Digi-Key; Supplier Part Number 2: MCP1824T-1202E/OTCT-ND; Supplier 3: Digi-Key; Supplier Part Number 3: MCP1824T-1202E/OTDKR-ND; Supplier 4: Farnell; Supplier Part Number 4: 1675420; Supplier 5: Farnell; Supplier Part Number 5: 1675420RL; Supplier 6: Newark; Supplier Part Number 6: 08N7666; Supplier 7: Mouser; Supplier Part Number 7: 579-MCP1824T-1202EOT; Mounting Technology: Surface Mount; Code_IPC: SOT23-5; ComponentLink1Description: Manufacturer URL; ComponentLink1URL: http://www.microchip.com/; ComponentLink2Description: Datasheet; ComponentLink2URL: http://ww1.microchip.com/downloads/en/DeviceDoc/22070a.pdf; ComponentLink3Description: Package Specification; ComponentLink3URL: http://www.microchip.com/stellent/groups/techpub_sg/documents/packagingspec/en012702.pdf
footprint SOT-23-OT5_N (SOT23, 5-Leads, Body 2.9x1.6mm, Pitch 0.95mm, Lead Span 2.7mm, IPC Medium Density)
footprint SOT-23-OT5_L (SOT23, 5-Leads, Body 2.9x1.6mm, Pitch 0.95mm, Lead Span 2.7mm, IPC High Density)
footprint SOT-23-OT5_M (SOT23, 5-Leads, Body 2.9x1.6mm, Pitch 0.95mm, Lead Span 2.7mm, IPC Low Density)
pins: 1 VIN (power), 2 GND (power), 3 ~{SHDN} (in), 4 PWRGD (power), 5 VOUT (power)

## MCP1824T-1802E/DC
designator U?
300 mA, Low Voltage, Low Quiescent Current LDO Regulator, 5-Pin SOT-223, Extended Temperature, Tape and Reel; Manufacturer: Microchip; PartNumber: MCP1824T-1802E/DC; DatasheetVersion: revA, Aug-2007; PackageVersion: revBB, Aug-2009; PackageReference: SOT-223-DC5; PackageDescription: 5-Lead Plastic Small Outline Transistor (DC) [SOT-223]; Supplier 1: Digi-Key; Supplier Part Number 1: MCP1824T-1802E/DCTR-ND; Supplier 2: Digi-Key; Supplier Part Number 2: MCP1824T-1802E/DCCT-ND; Supplier 3: Digi-Key; Supplier Part Number 3: MCP1824T-1802E/DCDKR-ND; Supplier 4: Farnell; Supplier Part Number 4: 1851984RL; Supplier 5: Farnell; Supplier Part Number 5: 1851984; Supplier 6: Newark; Supplier Part Number 6: 14N8537; Supplier 7: Mouser; Supplier Part Number 7: 579-MCP1824T-1802EDC; Mounting Technology: Surface Mount; ComponentLink1Description: Manufacturer URL; ComponentLink1URL: http://www.microchip.com/; ComponentLink2Description: Datasheet; ComponentLink2URL: http://ww1.microchip.com/downloads/en/DeviceDoc/22070a.pdf; ComponentLink3Description: Package Specification; ComponentLink3URL: http://www.microchip.com/stellent/groups/techpub_sg/documents/packagingspec/en012702.pdf
footprint SOT-223-DC5_N (SOT223, 6-Leads, Body 6.5x3.5mm, Pitch 1.27mm, Lead Span 7mm, IPC Medium Density)
footprint SOT-223-DC5_L (SOT223, 6-Leads, Body 6.5x3.5mm, Pitch 1.27mm, Lead Span 7mm, IPC High Density)
footprint SOT-223-DC5_M (SOT223, 6-Leads, Body 6.5x3.5mm, Pitch 1.27mm, Lead Span 7mm, IPC Low Density)
pins: 1 ~{SHDN} (in), 2 VIN (power), 3 GND (power), 4 VOUT (power), 5 PWRGD (power), 6 GND (power)

## MCP1824T-1802E/OT
designator U?
300 mA, Low Voltage, Low Quiescent Current LDO Regulator, 5-Pin SOT-23, Extended Temperature, Tape and Reel; Manufacturer: Microchip; PartNumber: MCP1824T-1802E/OT; DatasheetVersion: revA, Aug-2007; PackageVersion: revBB, Aug-2009; PackageReference: SOT-23-OT5; PackageDescription: 5-Lead Plastic Small Outline Transistor (OT) [SOT-23]; Supplier 1: Digi-Key; Supplier Part Number 1: MCP1824T-1802E/OTTR-ND; Supplier 2: Digi-Key; Supplier Part Number 2: MCP1824T-1802E/OTCT-ND; Supplier 3: Digi-Key; Supplier Part Number 3: MCP1824T-1802E/OTDKR-ND; Supplier 4: Farnell; Supplier Part Number 4: 1578381RL; Supplier 5: Farnell; Supplier Part Number 5: 1578381; Supplier 6: Newark; Supplier Part Number 6: 08N6456; Supplier 7: Mouser; Supplier Part Number 7: 579-MCP1824T-1802EOT; Mounting Technology: Surface Mount; Code_IPC: SOT23-5; ComponentLink1Description: Manufacturer URL; ComponentLink1URL: http://www.microchip.com/; ComponentLink2Description: Datasheet; ComponentLink2URL: http://ww1.microchip.com/downloads/en/DeviceDoc/22070a.pdf; ComponentLink3Description: Package Specification; ComponentLink3URL: http://www.microchip.com/stellent/groups/techpub_sg/documents/packagingspec/en012702.pdf
footprint SOT-23-OT5_N (SOT23, 5-Leads, Body 2.9x1.6mm, Pitch 0.95mm, Lead Span 2.7mm, IPC Medium Density)
footprint SOT-23-OT5_L (SOT23, 5-Leads, Body 2.9x1.6mm, Pitch 0.95mm, Lead Span 2.7mm, IPC High Density)
footprint SOT-23-OT5_M (SOT23, 5-Leads, Body 2.9x1.6mm, Pitch 0.95mm, Lead Span 2.7mm, IPC Low Density)
pins: 1 VIN (power), 2 GND (power), 3 ~{SHDN} (in), 4 PWRGD (power), 5 VOUT (power)

## MCP1824T-2502E/DC
designator U?
300 mA, Low Voltage, Low Quiescent Current LDO Regulator, 5-Pin SOT-223, Extended Temperature, Tape and Reel; Manufacturer: Microchip; PartNumber: MCP1824T-2502E/DC; DatasheetVersion: revA, Aug-2007; PackageVersion: revBB, Aug-2009; PackageReference: SOT-223-DC5; PackageDescription: 5-Lead Plastic Small Outline Transistor (DC) [SOT-223]; Supplier 1: Digi-Key; Supplier Part Number 1: MCP1824T-2502E/DCTR-ND; Supplier 2: Digi-Key; Supplier Part Number 2: MCP1824T-2502E/DCCT-ND; Supplier 3: Digi-Key; Supplier Part Number 3: MCP1824T-2502E/DCDKR-ND; Supplier 4: Farnell; Supplier Part Number 4: 1578382; Supplier 5: Farnell; Supplier Part Number 5: 1578382RL; Supplier 6: Mouser; Supplier Part Number 6: 579-MCP1824T-2502EDC; Mounting Technology: Surface Mount; ComponentLink1Description: Manufacturer URL; ComponentLink1URL: http://www.microchip.com/; ComponentLink2Description: Datasheet; ComponentLink2URL: http://ww1.microchip.com/downloads/en/DeviceDoc/22070a.pdf; ComponentLink3Description: Package Specification; ComponentLink3URL: http://www.microchip.com/stellent/groups/techpub_sg/documents/packagingspec/en012702.pdf
footprint SOT-223-DC5_N (SOT223, 6-Leads, Body 6.5x3.5mm, Pitch 1.27mm, Lead Span 7mm, IPC Medium Density)
footprint SOT-223-DC5_L (SOT223, 6-Leads, Body 6.5x3.5mm, Pitch 1.27mm, Lead Span 7mm, IPC High Density)
footprint SOT-223-DC5_M (SOT223, 6-Leads, Body 6.5x3.5mm, Pitch 1.27mm, Lead Span 7mm, IPC Low Density)
pins: 1 ~{SHDN} (in), 2 VIN (power), 3 GND (power), 4 VOUT (power), 5 PWRGD (power), 6 GND (power)

## MCP1824T-2502E/OT
designator U?
300 mA, Low Voltage, Low Quiescent Current LDO Regulator, 5-Pin SOT-23, Extended Temperature, Tape and Reel; Manufacturer: Microchip; PartNumber: MCP1824T-2502E/OT; DatasheetVersion: revA, Aug-2007; PackageVersion: revBB, Aug-2009; PackageReference: SOT-23-OT5; PackageDescription: 5-Lead Plastic Small Outline Transistor (OT) [SOT-23]; Supplier 1: Digi-Key; Supplier Part Number 1: MCP1824T-2502E/OTTR-ND; Supplier 2: Digi-Key; Supplier Part Number 2: MCP1824T-2502E/OTCT-ND; Supplier 3: Digi-Key; Supplier Part Number 3: MCP1824T-2502E/OTDKR-ND; Supplier 4: Farnell; Supplier Part Number 4: 1578383RL; Supplier 5: Farnell; Supplier Part Number 5: 1578383; Supplier 6: Newark; Supplier Part Number 6: 40M0700; Supplier 7: Mouser; Supplier Part Number 7: 579-MCP1824T-2502EOT; Mounting Technology: Surface Mount; Code_IPC: SOT23-5; ComponentLink1Description: Manufacturer URL; ComponentLink1URL: http://www.microchip.com/; ComponentLink2Description: Datasheet; ComponentLink2URL: http://ww1.microchip.com/downloads/en/DeviceDoc/22070a.pdf; ComponentLink3Description: Package Specification; ComponentLink3URL: http://www.microchip.com/stellent/groups/techpub_sg/documents/packagingspec/en012702.pdf
footprint SOT-23-OT5_N (SOT23, 5-Leads, Body 2.9x1.6mm, Pitch 0.95mm, Lead Span 2.7mm, IPC Medium Density)
footprint SOT-23-OT5_L (SOT23, 5-Leads, Body 2.9x1.6mm, Pitch 0.95mm, Lead Span 2.7mm, IPC High Density)
footprint SOT-23-OT5_M (SOT23, 5-Leads, Body 2.9x1.6mm, Pitch 0.95mm, Lead Span 2.7mm, IPC Low Density)
pins: 1 VIN (power), 2 GND (power), 3 ~{SHDN} (in), 4 PWRGD (power), 5 VOUT (power)

## MCP1824T-3002E/DC
designator U?
300 mA, Low Voltage, Low Quiescent Current LDO Regulator, 5-Pin SOT-223, Extended Temperature, Tape and Reel; Manufacturer: Microchip; PartNumber: MCP1824T-3002E/DC; DatasheetVersion: revA, Aug-2007; PackageVersion: revBB, Aug-2009; PackageReference: SOT-223-DC5; PackageDescription: 5-Lead Plastic Small Outline Transistor (DC) [SOT-223]; Supplier 1: Digi-Key; Supplier Part Number 1: MCP1824T-3002E/DCTR-ND; Supplier 2: Digi-Key; Supplier Part Number 2: MCP1824T-3002E/DCCT-ND; Supplier 3: Digi-Key; Supplier Part Number 3: MCP1824T-3002E/DCDKR-ND; Supplier 4: Farnell; Supplier Part Number 4: 1578384RL; Supplier 5: Farnell; Supplier Part Number 5: 1578384; Supplier 6: Mouser; Supplier Part Number 6: 579-MCP1824T-3002EDC; Mounting Technology: Surface Mount; ComponentLink1Description: Manufacturer URL; ComponentLink1URL: http://www.microchip.com/; ComponentLink2Description: Datasheet; ComponentLink2URL: http://ww1.microchip.com/downloads/en/DeviceDoc/22070a.pdf; ComponentLink3Description: Package Specification; ComponentLink3URL: http://www.microchip.com/stellent/groups/techpub_sg/documents/packagingspec/en012702.pdf
footprint SOT-223-DC5_N (SOT223, 6-Leads, Body 6.5x3.5mm, Pitch 1.27mm, Lead Span 7mm, IPC Medium Density)
footprint SOT-223-DC5_L (SOT223, 6-Leads, Body 6.5x3.5mm, Pitch 1.27mm, Lead Span 7mm, IPC High Density)
footprint SOT-223-DC5_M (SOT223, 6-Leads, Body 6.5x3.5mm, Pitch 1.27mm, Lead Span 7mm, IPC Low Density)
pins: 1 ~{SHDN} (in), 2 VIN (power), 3 GND (power), 4 VOUT (power), 5 PWRGD (power), 6 GND (power)

## MCP1824T-3002E/OT
designator U?
300 mA, Low Voltage, Low Quiescent Current LDO Regulator, 5-Pin SOT-23, Extended Temperature, Tape and Reel; Manufacturer: Microchip; PartNumber: MCP1824T-3002E/OT; DatasheetVersion: revA, Aug-2007; PackageVersion: revBB, Aug-2009; PackageReference: SOT-23-OT5; PackageDescription: 5-Lead Plastic Small Outline Transistor (OT) [SOT-23]; Supplier 1: Digi-Key; Supplier Part Number 1: MCP1824T-3002E/OTTR-ND; Supplier 2: Digi-Key; Supplier Part Number 2: MCP1824T-3002E/OTCT-ND; Supplier 3: Digi-Key; Supplier Part Number 3: MCP1824T-3002E/OTDKR-ND; Supplier 4: Farnell; Supplier Part Number 4: 1578385RL; Supplier 5: Farnell; Supplier Part Number 5: 1578385; Supplier 6: Newark; Supplier Part Number 6: 08N6460; Supplier 7: Mouser; Supplier Part Number 7: 579-MCP1824T-3002EOT; Mounting Technology: Surface Mount; Code_IPC: SOT23-5; ComponentLink1Description: Manufacturer URL; ComponentLink1URL: http://www.microchip.com/; ComponentLink2Description: Datasheet; ComponentLink2URL: http://ww1.microchip.com/downloads/en/DeviceDoc/22070a.pdf; ComponentLink3Description: Package Specification; ComponentLink3URL: http://www.microchip.com/stellent/groups/techpub_sg/documents/packagingspec/en012702.pdf
footprint SOT-23-OT5_N (SOT23, 5-Leads, Body 2.9x1.6mm, Pitch 0.95mm, Lead Span 2.7mm, IPC Medium Density)
footprint SOT-23-OT5_L (SOT23, 5-Leads, Body 2.9x1.6mm, Pitch 0.95mm, Lead Span 2.7mm, IPC High Density)
footprint SOT-23-OT5_M (SOT23, 5-Leads, Body 2.9x1.6mm, Pitch 0.95mm, Lead Span 2.7mm, IPC Low Density)
pins: 1 VIN (power), 2 GND (power), 3 ~{SHDN} (in), 4 PWRGD (power), 5 VOUT (power)